# Altium footprint library LYZ.PcbLib: 30 footprints (part 1 of 2)
Each footprint in its own frame and in the unit in brackets; x right, y up, seen from the top. Pads: shape width x height; smd on the part's side, far side on the other; paste and mask are expansions set on the pad; w line width, h text height; cw(c..) or ccw(c..) is an arc to the next point about the centre after c.
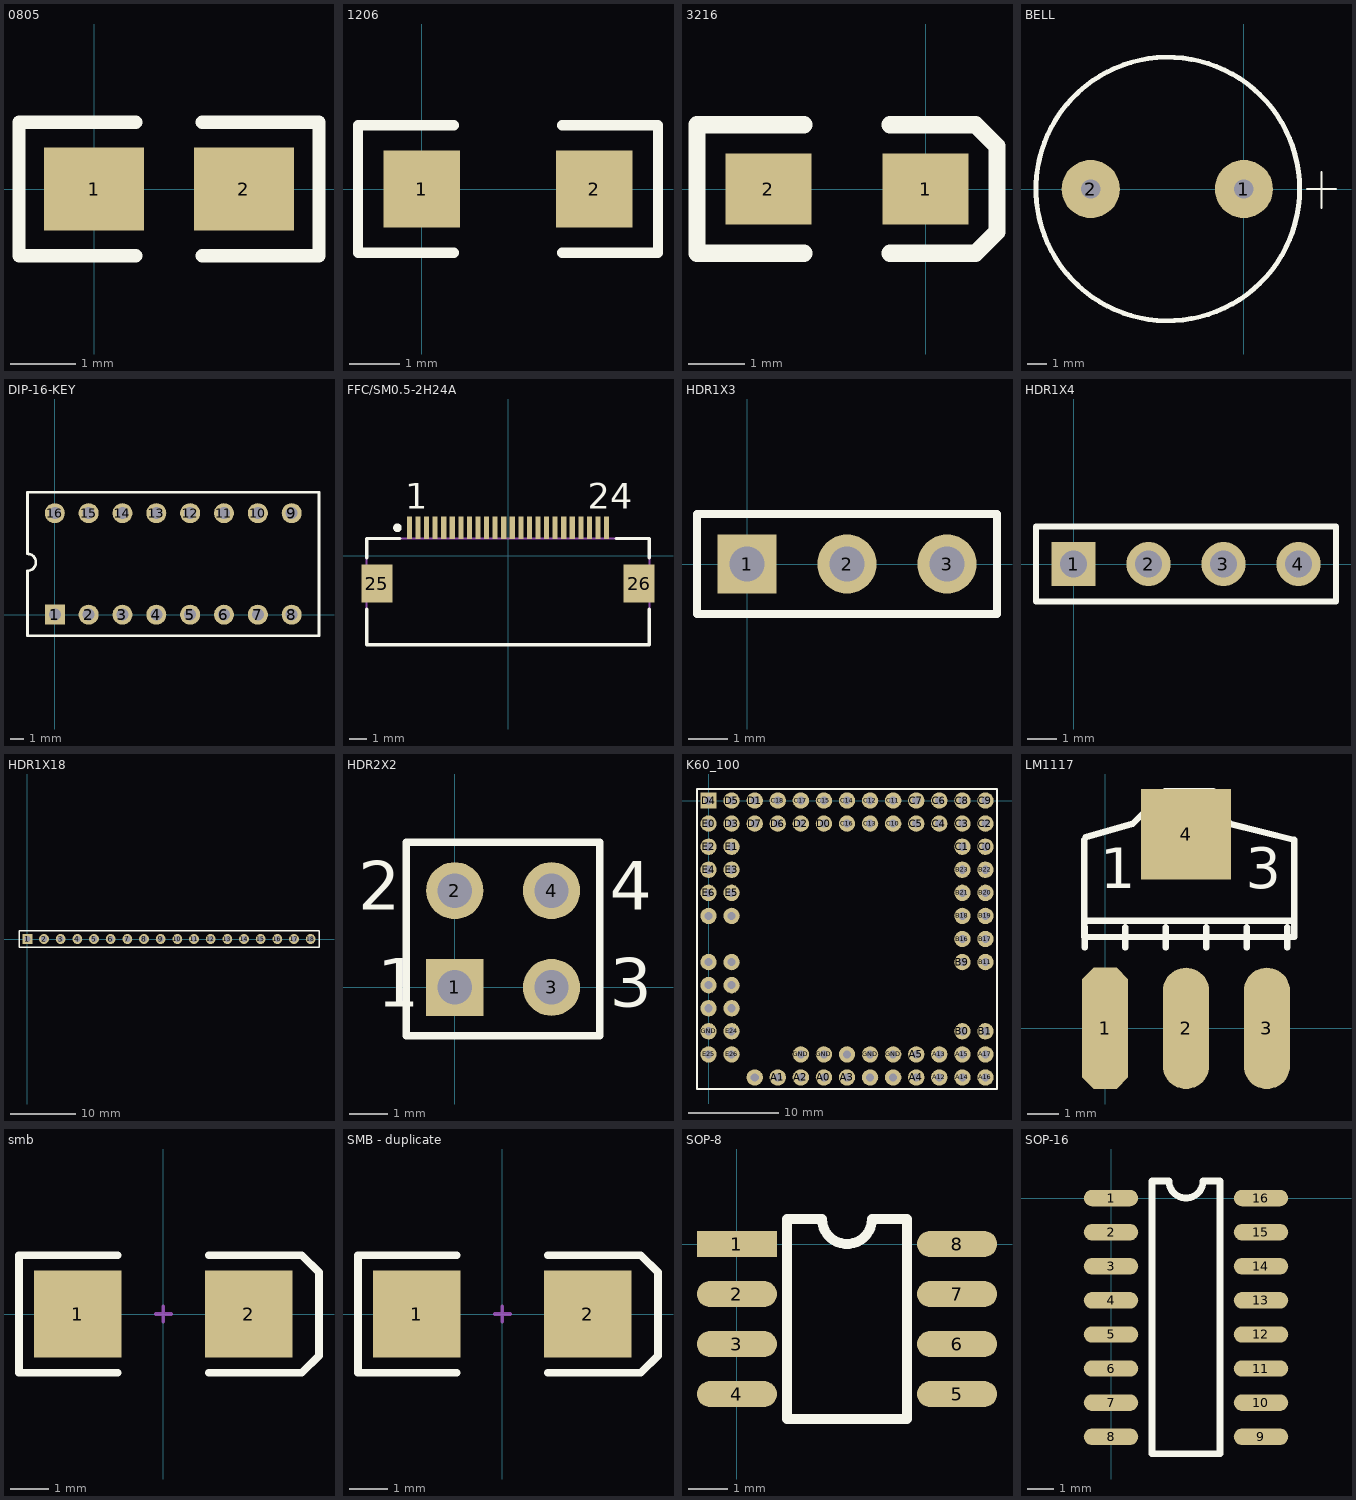
[diagram p0: the footprints below, top view; thin cyan lines are the x and y axes]

## 0805 [mil]
pads (2):
  rect 60x50 smd: 1(0,0) 2(90,0)
Top Overlay:
  lines w8: 25,-40 -45,-40 -45,40 25,40 ; 65,-40 135,-40 135,40 65,40

## 1206 [mil]
pads (2):
  rect 60x60 smd: 1(0,0) 2(135,0)
Top Overlay:
  lines w8: 25,-50 -50,-50 -50,50 25,50 ; 110,-50 185,-50 185,50 110,50

## 3216 [mil]
pads (2):
  rect 60x50 smd: 1(0,0) 2(-110,0)
Top Overlay:
  lines w12: -85,-45 -160,-45 -160,45 -85,45 ; -25,-45 35,-45 50,-30 50,30 35,45 -25,45

## BELL [mil]
pads (2):
  round 120 hole 40: 1(0,0) 2(-316,0)
Top Overlay:
  circle w10: c-156.89,0 r271.89
  lines w4: 130,0 155,0 ; 144,0 190,0 ; 160,-39 160,35

## DIP-16-KEY [mm] "DIP; 16 Leads; Row Spacing 7.62 mm; Pitch 2.54 mm"
pads (16):
  rect 1.5x1.5 hole 0.9: 1(0,0)
  round 1.5 hole 0.9: 2(2.54,0) 3(5.08,0) 4(7.62,0) 5(10.16,0) 6(12.7,0) 7(15.24,0) 8(17.78,0) 9(17.78,7.62) 10(15.24,7.62) 11(12.7,7.62) 12(10.16,7.62) 13(7.62,7.62) 14(5.08,7.62) 15(2.54,7.62) 16(0,7.62)
Top Overlay:
  lines w0.2: -2.05,4.57 cw(c-2.05,3.935) -2.05,3.3 -2.05,-1.59 19.83,-1.59 19.83,9.2 -2.05,9.2 -2.05,4.6

## FFC/SM0.5-2H24A [mm] "Connector; FH12 Series; 24 Position; 0.5mm Spaced Top Contact"
height 2
pads (26):
  rect 0.3x1.3 smd: 1(-5.75,1.625) 2(-5.25,1.625) 3(-4.75,1.625) 4(-4.25,1.625) 5(-3.75,1.625) 6(-3.25,1.625) 7(-2.75,1.625) 8(-2.25,1.625) 9(-1.75,1.625) 10(-1.25,1.625) 11(-0.75,1.625) 12(-0.25,1.625) 13(0.25,1.625) 14(0.75,1.625) 15(1.25,1.625) 16(1.75,1.625) 17(2.25,1.625) 18(2.75,1.625) 19(3.25,1.625) 20(3.75,1.625) 21(4.25,1.625) 22(4.75,1.625) 23(5.25,1.625) 24(5.75,1.625)
  rect 1.8x2.2 smd: 25(-7.65,-1.625) 26(7.65,-1.625)
Top Overlay:
  circle w0.25: c-6.45,1.625 r0.125
  lines w0.2: -8.25,-3.125 -8.25,-5.2 8.25,-5.2 8.25,-3.125 ; -8.25,-0.125 -8.25,1 -6.3,1 ; 6.3,1 8.25,1 8.25,-0.125
  text "1" at -6,2.725 h1.5
  text "24" at 4.65,2.725 h1.5
Mechanical 13:
  lines w0.1: -8.25,-5.2 8.25,-5.2 8.25,1 -8.25,1 -8.25,-5.2
3D body: height 2, standoff 0, extent -8.25,-5.2 8.25,1

## HDR1X3 [mm] "Connector; Header; 3 Position"
pads (3):
  rect 1.5x1.5 hole 0.9: 1(0,0)
  round 1.5 hole 0.9: 2(2.54,0) 3(5.08,0)
Top Overlay:
  lines w0.2: -1.27,-1.27 6.35,-1.27 6.35,1.27 -1.27,1.27 -1.27,-1.27

## HDR1X4 [mm] "Connector; Header; 4 Position"
pads (4):
  rect 1.5x1.5 hole 0.9: 1(0,0)
  round 1.5 hole 0.9: 2(2.54,0) 3(5.08,0) 4(7.62,0)
Top Overlay:
  lines w0.2: -1.27,-1.27 -1.27,1.27 8.89,1.27 8.89,-1.27 -1.27,-1.27

## HDR1X18 [mm] "Connector; Header; 18 Position"
pads (18):
  rect 1.5x1.5 hole 0.9: 1(0,0)
  round 1.5 hole 0.9: 2(2.54,0) 3(5.08,0) 4(7.62,0) 5(10.16,0) 6(12.7,0) 7(15.24,0) 8(17.78,0) 9(20.32,0) 10(22.86,0) 11(25.4,0) 12(27.94,0) 13(30.48,0) 14(33.02,0) 15(35.56,0) 16(38.1,0) 17(40.64,0) 18(43.18,0)
Top Overlay:
  lines w0.2: -1.27,-1.27 44.45,-1.27 44.45,1.27 0.635,1.27 -1.27,1.27 -1.27,-1.27

## HDR2X2 [mm] "Connector; Header; 2x2 Position"
pads (4):
  rect 1.5x1.5 hole 0.9: 1(0,0)
  round 1.5 hole 0.9: 2(0,2.54) 3(2.54,0) 4(2.54,2.54)
Top Overlay:
  lines w0.2: -1.27,-1.27 -1.27,3.81 3.81,3.81 3.81,-1.27 -1.27,-1.27
  text "1" at -2.032,-0.508 h1.27
  text "2" at -2.54,2.032 h1.27
  text "4" at 4.064,2.032 h1.27
  text "3" at 4.064,-0.508 h1.27

## K60_100 [mm]
pads (78):
  round 1.8 hole 0.9: 3.3V(15.24,-27.94) 3.3V(17.78,-30.48) 3.3V(20.32,-30.48) A0(12.7,-30.48) A0M3(2.54,-22.86) A0P3(0,-22.86) A1(7.62,-30.48) A1M3(2.54,-20.32) A1P3(0,-20.32) A2(10.16,-30.48) A3(15.24,-30.48) A4(22.86,-30.48) A5(22.86,-27.94) A12(25.4,-30.48) A13(25.4,-27.94) A14(27.94,-30.48) A15(27.94,-27.94) A16(30.48,-30.48) A17(30.48,-27.94) ADC1_DM1(2.54,-17.78) ADC1_DP1(0,-17.78) B0(27.94,-25.4) B1(30.48,-25.4) B9(27.94,-17.78) B11(30.48,-17.78) B16(27.94,-15.24) B17(30.48,-15.24) B18(27.94,-12.7) B19(30.48,-12.7) B20(30.48,-10.16) B21(27.94,-10.16) B22(30.48,-7.62) B23(27.94,-7.62) C0(30.48,-5.08) C1(27.94,-5.08) C2(30.48,-2.54) C3(27.94,-2.54) C4(25.4,-2.54) C5(22.86,-2.54) C6(25.4,0) C7(22.86,0) C8(27.94,0) C9(30.48,0) C10(20.32,-2.54) C11(20.32,0) C12(17.78,0) C13(17.78,-2.54) C14(15.24,0) C15(12.7,0) C16(15.24,-2.54) C17(10.16,0) C18(7.62,0) D0(12.7,-2.54) D1(5.08,0) D2(10.16,-2.54) D3(2.54,-2.54) D5(2.54,0) D6(7.62,-2.54) D7(5.08,-2.54) E0(0,-2.54) E1(2.54,-5.08) E2(0,-5.08) E3(2.54,-7.62) E4(0,-7.62) E5(2.54,-10.16) E6(0,-10.16) E24(2.54,-25.4) E25(0,-27.94) E26(2.54,-27.94) GND(0,-25.4) GND(10.16,-27.94) GND(12.7,-27.94) GND(17.78,-27.94) GND(20.32,-27.94) RESET_B(5.08,-30.48) USB0_DM(2.54,-12.7) USB0_DP(0,-12.7)
  rect 1.8x1.8 hole 0.9: D4(0,0)
Top Overlay:
  lines w0.254: -1.27,-31.75 31.75,-31.75 31.75,1.27 -1.27,1.27 -1.27,-31.369 -1.27,-31.75

## LM1117 [mm]
pads (4):
  oct 1.451x3.81 smd: 1(0,0)
  oval 1.451x3.81 smd: 2(2.54,0) 3(5.08,0)
  rect 2.84x2.84 smd: 4(2.54,6.096)
Top Overlay:
  lines w0.2: -0.66,5.918 -0.66,3.378 ; -0.635,2.54 -0.635,3.175 ; -0.618,6.003 0.864,6.426 1.88,7.442 3.404,7.442 3.912,6.426 5.944,5.918 5.944,2.87 ; 0.635,2.54 0.635,3.175 ; 1.905,2.54 1.905,3.175 ; 3.175,2.54 3.175,3.175 ; 4.445,2.54 4.445,3.175 ; 5.715,2.54 5.715,3.175 ; -0.66,3.378 5.944,3.378 5.944,2.87 ; -0.66,3.378 -0.66,2.87 5.944,2.87
  text "3" at 4.42,4.394 h1.27
  text "1" at -0.152,4.394 h1.27

## smb [mm] "DO-214-AA/SMB; 2 C-Bend Leads; Body 5.3 x 3.6 mm, inc. leads (LxW)"
height 2.54
pads (2):
  rect 2.3x2.3 smd: 1(-2.25,0) 2(2.25,0)
Top Overlay:
  lines w0.2: -1.2,-1.55 -3.8,-1.55 -3.8,1.55 -1.2,1.55 ; 1.2,-1.55 3.65,-1.55 4.1,-1.1 4.1,1.1 3.65,1.55 1.2,1.55
Mechanical 1:
  lines w0.1: -0.2,0 0.2,0 ; 0,-0.2 0,0.2

## SMB - duplicate [mm]
pads (2):
  rect 2.3x2.3 smd: 1(-2.25,0) 2(2.25,0)
Top Overlay:
  lines w0.2: -1.2,-1.55 -3.8,-1.55 -3.8,1.55 -1.2,1.55 ; 1.2,-1.55 3.65,-1.55 4.1,-1.1 4.1,1.1 3.65,1.55 1.2,1.55
Mechanical 1:
  lines w0.1: -0.2,0 0.2,0 ; 0,-0.2 0,0.2

## SOP-8 [mm]
pads (8):
  rect 2.03x0.66 smd: 1(0,0)
  oval 2.03x0.66 smd: 2(0,-1.27) 3(0,-2.54) 4(0,-3.81) 5(5.588,-3.81) 6(5.588,-2.54) 7(5.588,-1.27) 8(5.588,0)
Top Overlay:
  lines w0.254: 1.27,-4.445 1.27,0.635 2.159,0.635 ccw(c2.794,0.635) 3.429,0.635 4.318,0.635 4.318,-4.445 1.27,-4.445

## SOP-16 [mil]
pads (16):
  oval 80x24 smd: 1(0,0) 2(0,-50) 3(0,-100) 4(0,-150) 5(0,-200) 6(0,-250) 7(0,-300) 8(0,-350) 9(220,-350) 10(220,-300) 11(220,-250) 12(220,-200) 13(220,-150) 14(220,-100) 15(220,-50) 16(220,0)
Top Overlay:
  lines w10: 60,-375 60,25 85,25 ccw(c110,25) 135,25 160,25 160,-375 60,-375